# Altium schematic symbol library доп_элементы.SchLib: 2 symbols
Pins are listed as number, name and electrical type; pins without a type are passive.

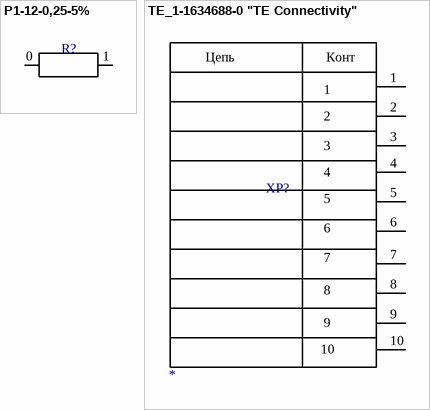
[diagram p0: symbols P1-12-0,25-5% to TE_1-1634688-0 "TE Connectivity"]

## P1-12-0,25-5%
designator R?
Резистор 270 Ом M-"A" АЛЯР.434110.005 ТУ; Manufacturer: ОАО "КБ "ИКАР""; Created_by: Сарынина; Hight: 0,5; Live_status: Дед внутри; Name: Резистор Р1-12-0,25; Reliability: 0.000001; TKR: M; Tolerance: 5%; BOM: *; Issue_Date: 23_09_2020; Size: 0805; TU: АЛЯР.434110.005 ТУ; Type: Р1-12-0,25±5%-М-"А"; Value_KD: *; Version: 00; Voltage: *; Weight: *
footprint RES_1206
pins: 0 1, 1

## TE_1-1634688-0 "TE Connectivity"
designator XP?
Вилка прямая; Parameter 1: *
footprint TE_1-1634688-0_IDC10_V
pins: 1 38, 2 39, 3 40, 4 41, 5 42, 6 43, 7 44, 8 45, 9 46, 10 47
text: Цепь; Конт